# Altium footprint library TSOP-II_54.PcbLib: 1 footprints
Each footprint in its own frame and in the unit in brackets; x right, y up, seen from the top. Pads: shape width x height; smd on the part's side, far side on the other; paste and mask are expansions set on the pad; w line width, h text height; cw(c..) or ccw(c..) is an arc to the next point about the centre after c.
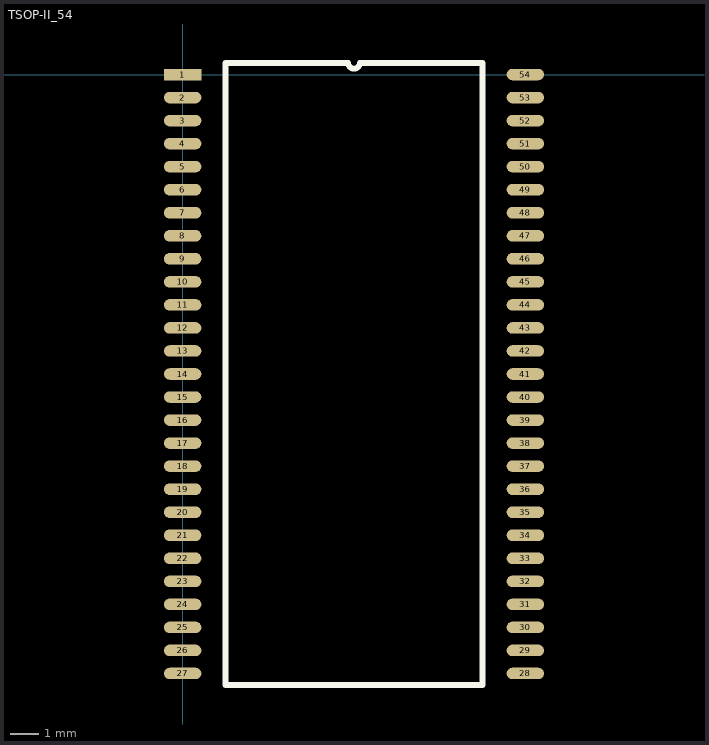
[diagram p0: the footprint, top view; thin cyan lines are the x and y axes]

## TSOP-II_54 [mm]
pads (54):
  rect 1.3x0.4 smd: 1(0,0)
  oval 1.3x0.4 smd: 2(0,-0.8) 3(0,-1.6) 4(0,-2.4) 5(0,-3.2) 6(0,-4) 7(0,-4.8) 8(0,-5.6) 9(0,-6.4) 10(0,-7.2) 11(0,-8) 12(0,-8.8) 13(0,-9.6) 14(0,-10.4) 15(0,-11.2) 16(0,-12) 17(0,-12.8) 18(0,-13.6) 19(0,-14.4) 20(0,-15.2) 21(0,-16) 22(0,-16.8) 23(0,-17.6) 24(0,-18.4) 25(0,-19.2) 26(0,-20) 27(0,-20.8) 28(11.9,-20.8) 29(11.9,-20) 30(11.9,-19.2) 31(11.9,-18.4) 32(11.9,-17.6) 33(11.9,-16.8) 34(11.9,-16) 35(11.9,-15.2) 36(11.9,-14.4) 37(11.9,-13.6) 38(11.9,-12.8) 39(11.9,-12) 40(11.9,-11.2) 41(11.9,-10.4) 42(11.9,-9.6) 43(11.9,-8.8) 44(11.9,-8) 45(11.9,-7.2) 46(11.9,-6.4) 47(11.9,-5.6) 48(11.9,-4.8) 49(11.9,-4) 50(11.9,-3.2) 51(11.9,-2.4) 52(11.9,-1.6) 53(11.9,-0.8) 54(11.9,0)
Top Overlay:
  lines w0.2: 1.485,-21.2 1.485,0.4 5.75,0.4 ccw(c5.95,0.4) 6.15,0.4 10.415,0.4 10.415,-21.2 1.485,-21.2